# Altium schematic symbol library e-tex pad.SchLib: 1 symbol
Pins are listed as number, name and electrical type; pins without a type are passive.

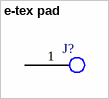
[diagram p0: symbol e-tex pad]

## e-tex pad
designator J?  (value not drawn)
footprint MFR PARTNO (Remember to set Height!)
pins: 1 ETEXTILE